# Altium schematic symbol library AltiumLibrary.SchLib: 65 symbols (part 2 of 2)
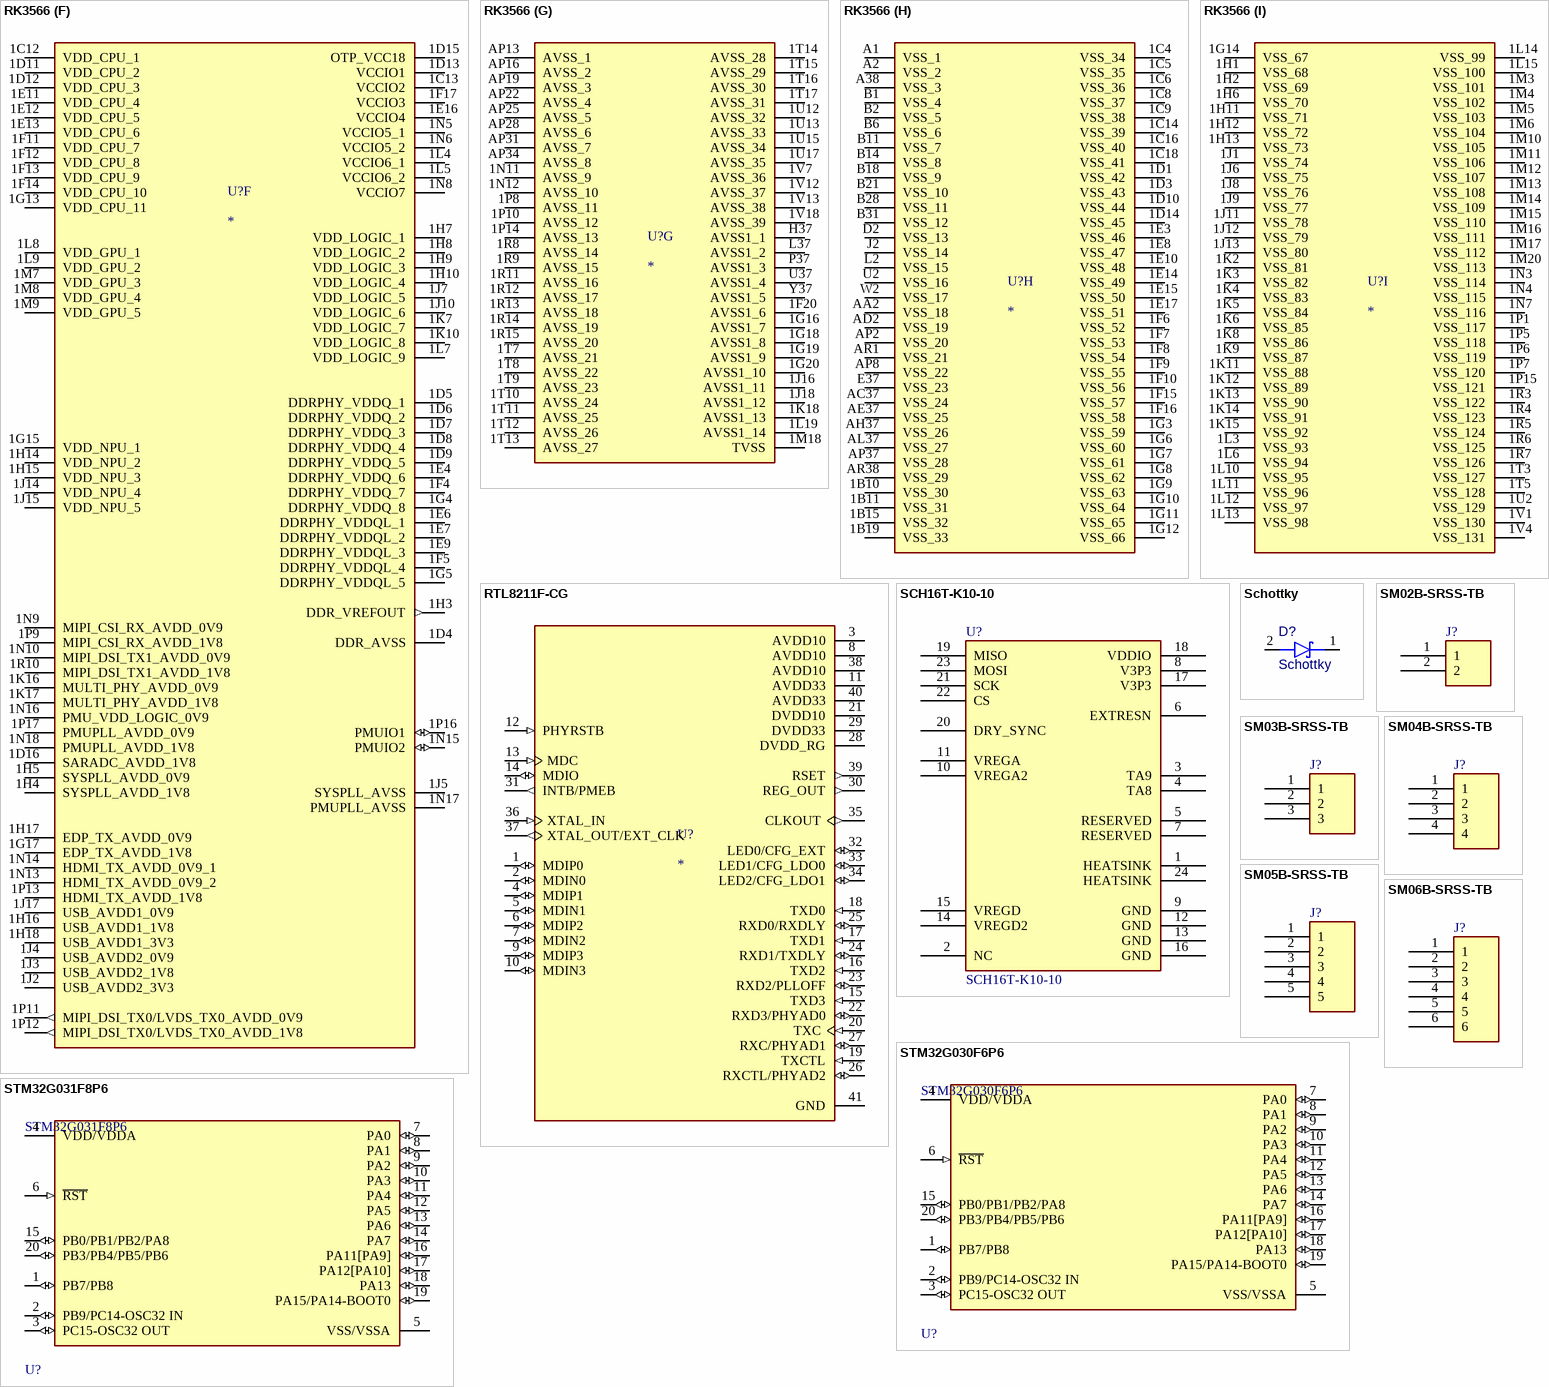
[diagram p8: symbols RK3566 to STM32G031F8P6]

## RK3566
designator U?
high-performance and low-power quad-core application processor; MF: Fuzhou Rockchip Electronics Co; MP: RK3566; SnapEDA_Link: https://www.snapeda.com/parts/RK3566/Fuzhou+Rockchip+Electronics+Co/view-part/?ref=snap; Package: None; Value: *; Check_prices: https://www.snapeda.com/parts/RK3566/Fuzhou+Rockchip+Electronics+Co/view-part/?ref=eda
footprint RK3566
part A pins: 1A15 FSPI_CLK/FLASH_ALE/GPIO1_D0_D (io), 1A17 FSPI_D0/FLASH_RDY/GPIO1_D1_U (io), 1A18 FSPI_D1/FLASH_~{RD}/GPIO1_D2_U (io), 1A19 SARADC_VIN3 (in), 1B17 ~{CS0} (io), 1B18 SARADC_VIN2 (in), 1C15 FSPI_D3/FLASH_~{CS1}/GPIO1_D4_U (io), 1C17 SARADC_VIN1 (in), 1D17 SARADC_VIN0 (in), 1L2 CAM_CLKOUT1/EBC_SDCE2/GMAC1_RXD1_M1/SPI3_MISO_M0/I2S1_SDO1_M1/GPIO4_B0_D (io), 1M19 GPIO0_D4_D (io), 1N1 CAM_CLKOUT0/EBC_SDCE1/GMAC1_RXD0_M1/SPI3_CS1_M0/I2S1_LRCK_RX_M1/GPIO4_A7_D (io), 1N19 GPIO0_D3_D (io), 1N20 GPIO0_D5_D (io), 1P18 REFCLK_OUT/GPIO0_A0_D (io), 1P19 PMIC_SLEEP/TSADC_SHUT_M1/GPIO0_A2_D (io), 1P20 GPIO0_D6_D (io), 1R19 GPIO0_A3_U (io), 1R20 TSADC_SHUT_M0/TSADC_SHUT_ORG/GPIO0_A1_Z (io), 1T20 CLK32K_IN/CLK32K_OUT0/GPIO0_B0_U (io), 1U8 MIPI_CSI_RX_CLK1N (in), 1U9 MIPI_CSI_RX_CLK0N (in), 1U11 MIPI_DSI_TX1_CLKN (out), 1V8 MIPI_CSI_RX_CLK1P (in), 1V9 MIPI_CSI_RX_CLK0P (in), 1V11 MIPI_DSI_TX1_CLKP (out), 1V15 MIPI_DSI_TX0_CLKN/LVDS_TX0_CLKN (out), 1V16 MIPI_DSI_TX0_CLKP/LVDS_TX0_CLKP (out), AF38 FLASH_VOL_SEL/GPIO0_A7_U (io), AG38 ~{POR_U} (in), AJ38 GPU_PWREN/SATA_CP_POD/GPIO0_A6_D (io), AP14 MIPI_CSI_RX_D3N (in), AP15 MIPI_CSI_RX_D2P (in), AP17 MIPI_CSI_RX_D1N (in), AP18 MIPI_CSI_RX_D0P (in), AP20 MIPI_DSI_TX1_D3N (out), AP21 MIPI_DSI_TX1_D2P (out), AP23 MIPI_DSI_TX1_D1N (out), AP24 MIPI_DSI_TX1_D0P (out), AP26 MIPI_DSI_TX0_D3N/LVDS_TX0_D3N (out), AP27 MIPI_DSI_TX0_D2P/LVDS_TX0_D2P (out), AP29 MIPI_DSI_TX0_D1N/LVDS_TX0_D1N (out), AP30 MIPI_DSI_TX0_D0P/LVDS_TX0_D0P (out), AR14 MIPI_CSI_RX_D3P (in), AR15 MIPI_CSI_RX_D2N (in), AR17 MIPI_CSI_RX_D1P (in), AR18 MIPI_CSI_RX_D0N (in), AR20 MIPI_DSI_TX1_D3P (out), AR21 MIPI_DSI_TX1_D2N (out), AR23 MIPI_DSI_TX1_D1P (out), AR24 MIPI_DSI_TX1_D0N (out), AR26 MIPI_DSI_TX0_D3P/LVDS_TX0_D3P (out), AR27 MIPI_DSI_TX0_D2N/LVDS_TX0_D2N (out), AR29 MIPI_DSI_TX0_D1P/LVDS_TX0_D1P (out), AR30 MIPI_DSI_TX0_D0N/LVDS_TX0_D0N (out)
part B pins: 1H19 EDP_TX_AUXP (io), 1H20 EDP_TX_AUXN (io), 1J19 USB3_HOST1_DP (io), 1J20 USB3_HOST1_DM (io), 1K19 PCIE20_REFCLKP (io), 1K20 PCIE20_REFCLKN (io), 1P3 PWM14_M0/VOP_PWM_M1/GMAC1_MDC_M0/UART7_TX_M1/PDM_CLK1_M2/GPIO3_C4_D (io), 1P4 PWM15_IR_M0/SPDIF_TX_M1/GMAC1_MDIO_M0/UART7_RX_M1/I2S1_LRCK_RX_M2/GPIO3_C5_D (io), 1R17 PWM0_M0/CPUAVS/GPIO0_B7_D (io), 1R18 PWM2_M0/NPUAVS/UART0_TX/MCU_JTAG_TDI/GPIO0_C1_D (io), 1T6 PWM13_M1/SPI3_CS0_M1/SATA0_ACT_LED/UART9_RX_M1/I2S3_SDI_M1/GPIO4_C6_D (io), 1T18 PWM7_IR/SPI0_CS0_M0/GPIO0_C6_D (io), 1T19 PWM1_M0/GPUAVS/UART0_RX/GPIO0_C0_D (io), 1U6 PWM12_M1/SPI3_MISO_M1/SATA1_ACT_LED/UART9_TX_M1/I2S3_SDO_M1/GPIO4_C5_D (io), 1U7 PWM14_M1/SPI3_CLK_M1/I2S3_MCLK_M1/GPIO4_C2_D (io), 1U16 HDMI_TX_REXT (io), 1U19 PWM6/SPI0_MISO_M0/GPIO0_C5_D (io), 1V5 HDMITX_CEC_M0/SPI3_CS1_M1/GPIO4_D1_U (io), 1V6 EDP_HPDIN_M0/SPDIF_TX_M2/SATA2_ACT_LED/I2S3_LRCK_M1/GPIO4_C4_D (io), 1V17 HDMI_TX_HPDIN (io), 1V20 HDMITX_CEC_M1/PWM0_M1/UART0_~{CTS}/GPIO0_C7_D (io), AA37 PCIE20_TXP/SATA2_TXP (out), AA38 PCIE20_TXN/SATA2_TXN (out), AB37 PCIE20_RXP/SATA2_RXP (in), AB38 PCIE20_RXN/SATA2_RXN (in), AD37 XIN24M (in), AD38 XOUT24M (out), AG2 ISP_PRELIGHT_TRIG/EBC_SDCE3/GMAC1_RXDV_CRS_M1/I2S1_SDO2_M1/GPIO4_B1_D (io), AH2 ISP_FLASHTRIGOUT/EBC_SDCE0/GMAC1_TXEN_M1/SPI3_CS0_M0/I2S1_SCLK_RX_M1/GPIO4_A6_D (io), AM37 PWM3_IR/EDP_HPDIN_M1/MCU_JTAG_TMS/GPIO0_C2_D (io), AN37 PWM5/SPI0_CS1_M0/UART0_~{RTS}/GPIO0_C4_D (io), AN38 PWM4/VOP_PWM_M0/MCU_JTAG_~{TRST}/GPIO0_C3_D (io), AP5 PWM12_M0/GMAC1_TXEN_M0/UART3_TX_M1/PDM_SDI2_M2/GPIO3_B7_D (io), AP11 HDMITX_SDA/I2C5_SDA_M1/GPIO4_D0_U (io), AP12 PWM15_IR_M1/SPI3_MOSI_M1/I2S3_SCLK_M1/GPIO4_C3_D (io), AP32 HDMI_TX_CLKN (out), AP33 HDMI_TX_D0P (out), AP35 HDMI_TX_D1N (out), AP36 HDMI_TX_D2P (out), AR4 PWM13_M0/GMAC1_MCLKINOUT_M0/UART3_RX_M1/PDM_SDI3_M2/GPIO3_C0_D (io), AR12 HDMITX_SCL/I2C5_SCL_M1/GPIO4_C7_U (io), AR32 HDMI_TX_CLKP (out), AR33 HDMI_TX_D0N (out), AR35 HDMI_TX_D1P (out), AR36 HDMI_TX_D2N (out), J37 EDP_TX_D0P (out), J38 EDP_TX_D0N (out), K37 EDP_TX_D1N (out), K38 EDP_TX_D1P (out), M37 EDP_TX_D2P (out), M38 EDP_TX_D2N (out), N37 EDP_TX_D3P (out), N38 EDP_TX_D3N (out), R37 USB_OTG0_DP (io), R38 USB_OTG0_DM (io), T37 USB_OTG0_ID (in), T38 USB_OTG0_VBUSDET (in), V1 USB_HOST2_DM (io), V2 USB_HOST2_DP (io), V37 USB3_HOST1_SSRXN/SATA1_RXN (in), V38 USB3_HOST1_SSRXP/SATA1_RXP (in), W37 USB3_HOST1_SSTXP/SATA1_TXP (out), W38 USB3_HOST1_SSTXN/SATA1_TXN (out), Y1 USB_HOST3_DM (io), Y2 USB_HOST3_DP (io)
part C pins: 1A13 I2S1_SCLK_RX_M0/UART4_RX_M0/PDM_CLK1_M0/SPDIF_TX_M0/GPIO1_A4_D (io), 1A14 I2S1_LRCK_RX_M0/UART4_TX_M0/PDM_CLK0_M0/AUDIOPWM_ROUT_P/GPIO1_A6_D (io), 1A16 EMMC_DATA_STROBE/FSPI_~{CS1}/FLASH_CLE/GPIO1_C6_D (io), 1B13 I2S1_SDO1_M0/I2S1_SDI3_M0/PDM_SDI3_M0/PCIE20_~{CLKREQ}_M2/GPIO1_B0_D (io), 1B14 I2S1_SDI0_M0/PDM_SDI0_M0/GPIO1_B3_D (io), 1B16 ~{RST}/~{FSPI}_~{D}2/~{FLASH}_~{WP}/~{GPIO}1_~{C}7_~{D} (io), 1B20 I2S2_SDO_M0/UART9_~{CTS}_M0/SPI2_CS0_M0/GPIO2_C4_D (io), 1D19 I2S2_LRCK_TX_M0/UART9_~{RTS}_M0/SPI2_MOSI_M0/GPIO2_C3_D (io), 1L1 CIF_HREF/EBC_SDLE/GMAC1_MDC_M1/UART1_~{RTS}_M1/I2S2_MCLK_M1/GPIO4_B6_D (io), 1N2 CIF_D14/EBC_SDDO14/GMAC1_TXD0_M1/UART9_TX_M2/I2S2_LRCK_TX_M1/GPIO4_A4_D (io), 1P2 CIF_D11/EBC_SDDO11/GMAC1_RXD2_M1/PDM_SDI1_M1/GPIO4_A1_D (io), 1R1 CIF_D12/EBC_SDDO12/GMAC1_RXD3_M1/UART7_TX_M2/PDM_SDI2_M1/GPIO4_A2_D (io), 1R2 CIF_D6/EBC_SDDO6/SDMMC2_DET_M0/I2S1_SDI2_M1/VOP_BT656_D6_M1/GPIO3_D4_D (io), 1R16 I2C2_SDA_M0/SPI0_MOSI_M0/PCIE20_~{PERST}_M0/PWM2_M1/GPIO0_B6_U (io), 1T1 CIF_D7/EBC_SDDO7/SDMMC2_PWREN_M0/I2S1_SDI3_M1/VOP_BT656_D7_M1/GPIO3_D5_D (io), 1T2 CIF_D0/EBC_SDDO0/SDMMC2_D0_M0/I2S1_MCLK_M1/VOP_BT656_D0_M1/GPIO3_C6_D (io), 1U1 CIF_D1/EBC_SDDO1/SDMMC2_D1_M0/I2S1_SCLK_TX_M1/VOP_BT656_D1_M1/GPIO3_C7_D (io), 1U20 I2C2_SCL_M0/SPI0_CLK_M0/PCIE20_~{WAKE}_M0/PWM1_M1/GPIO0_B5_U (io), A22 I2C3_SDA_M0/UART3_RX_M0/AUDIOPWM_LOUT_P/GPIO1_A0_U (io), A23 I2S1_MCLK_M0/UART3_~{RTS}_M0/SCR_CLK/GPIO1_A2_D (io), A26 I2S1_SDO2_M0/I2S1_SDI2_M0/PDM_SDI2_M0/PCIE20_~{WAKE}_M2/GPIO1_B1_D (io), A27 EMMC_CMD/FLASH_~{WR}/GPIO1_C4_U (io), A29 EMMC_CLKOUT/FLASH_DQS/GPIO1_C5_D (io), A30 EMMC_D5/FLASH_D5/GPIO1_C1_U (io), A32 EMMC_D0/FLASH_D0/GPIO1_B4_U (io), A33 EMMC_D7/FLASH_D7/GPIO1_C3_U (io), A37 I2S2_LRCK_RX_M0/UART6_~{CTS}_M0/SPI1_CS0_M0/GPIO2_C0_D (io), AB1 CIF_CLKIN/EBC_SDCLK/GMAC1_MCLKINOUT_M1/UART1_~{CTS}_M1/I2S2_SCLK_RX_M1/GPIO4_C1_D (io), AB2 CIF_CLKOUT/EBC_GDCLK/PWM11_IR_M1/GPIO4_C0_D (io), AC2 CIF_VSYNC/EBC_SDOE/GMAC1_MDIO_M1/I2S2_SCLK_TX_M1/GPIO4_B7_D (io), AD1 I2C2_SCL_M1/EBC_SDSHR/I2S1_SDO3_M1/GPIO4_B5_D (io), AE2 I2C4_SCL_M0/EBC_GDOE/ETH1_REFCLKO_25M_M1/SPI3_CLK_M0/I2S2_SDO_M1/GPIO4_B3_D (io), AF1 I2C2_SDA_M1/EBC_GDSP/ISP_FLASH_TRIGIN/VOP_BT656_CLK_M1/GPIO4_B4_D (io), AF2 I2C4_SDA_M0/EBC_VCOM/GMAC1_RXER_M1/SPI3_MOSI_M0/I2S2_SDI_M1/GPIO4_B2_D (io), AJ1 CIF_D15/EBC_SDDO15/GMAC1_TXD1_M1/UART9_RX_M2/I2S2_LRCK_RX_M1/GPIO4_A5_D (io), AJ2 CIF_D13/EBC_SDDO13/GMAC1_RXCLK_M1/UART7_RX_M2/PDM_SDI3_M1/GPIO4_A3_D (io), AJ37 I2C0_SCL/GPIO0_B1_U (io), AK2 CIF_D10/EBC_SDDO10/GMAC1_TXCLK_M1/PDM_CLK1_M1/GPIO4_A0_D (io), AK37 I2C1_SCL/MCU_JTAG_TDO/GPIO0_B3_U (io), AK38 I2C0_SDA/GPIO0_B2_U (io), AL1 CIF_D9/EBC_SDDO9/GMAC1_TXD3_M1/UART1_RX_M1/PDM_SDI0_M1/GPIO3_D7_D (io), AL2 CIF_D8/EBC_SDDO8/GMAC1_TXD2_M1/UART1_TX_M1/PDM_CLK0_M1/GPIO3_D6_D (io), AM1 CIF_D5/EBC_SDDO5/SDMMC2_CLK_M0/I2S1_SDI1_M1/VOP_BT656_D5_M1/GPIO3_D3_D (io), AM2 CIF_D4/EBC_SDDO4/SDMMC2_CMD_M0/I2S1_SDI0_M1/VOP_BT656_D4_M1/GPIO3_D2_D (io), AM38 I2C1_SDA/PCIE20_~{BUTTONRST}/MCU_JTAG_TCK/GPIO0_B4_U (io), AN2 CIF_D3/EBC_SDDO3/SDMMC2_D3_M0/I2S1_SDO0_M1/VOP_BT656_D3_M1/GPIO3_D1_D (io), AP1 CIF_D2/EBC_SDDO2/SDMMC2_D2_M0/I2S1_LRCK_TX_M1/VOP_BT656_D2_M1/GPIO3_D0_D (io), B22 I2C3_SCL_M0/UART3_TX_M0/AUDIOPWM_LOUT_N/GPIO1_A1_U (io), B23 I2S1_SCLK_TX_M0/UART3_~{CTS}_M0/SCR_IO/GPIO1_A3_D (io), B24 I2S1_LRCK_TX_M0/UART4_~{RTS}_M0/SCR_RST/GPIO1_A5_D (io), B25 I2S1_SDO0_M0/UART4_~{CTS}_M0/SCR_DET/AUDIOPWM_ROUT_N/GPIO1_A7_D (io), B26 I2S1_SDO3_M0/I2S1_SDI1_M0/PDM_SDI1_M0/PCIE20_~{PERST}_M2/GPIO1_B2_D (io), B27 EMMC_D1/FLASH_D1/GPIO1_B5_U (io), B29 EMMC_D3/FLASH_D3/GPIO1_B7_U (io), B30 EMMC_D6/FLASH_D6/GPIO1_C2_U (io), B32 EMMC_D2/FLASH_D2/GPIO1_B6_U (io), B33 EMMC_D4/FLASH_D4/GPIO1_C0_U (io), B36 I2S2_MCLK_M0/ETH0_REFCLKO_25M/UART7_~{RTS}_M0/SPI2_CLK_M0/GPIO2_C1_D (io), B38 CLK32K_OUT1/UART8_RX_M0/SPI1_CS1_M0/GPIO2_C6_D (io), C37 I2S2_SCLK_TX_M0/UART7_~{CTS}_M0/SPI2_MISO_M0/GPIO2_C2_D (io), D37 I2S2_SDI_M0/UART8_TX_M0/SPI2_CS1_M0/GPIO2_C5_D (io), D38 I2S2_SCLK_RX_M0/UART6_~{RTS}_M0/SPI1_MOSI_M0/GPIO2_B7_D (io)
part D pins: 1A20 SDMMC1_D3/UART7_TX_M0/GPIO2_A6_U (io), 1C19 SDMMC1_D0/UART6_RX_M0/GPIO2_A3_U (io), 1C20 UART1_RX_M0/GPIO2_B3_U (io), 1D18 SDMMC1_D2/UART7_RX_M0/GPIO2_A5_U (io), 1D20 SDMMC0_D2/ARM_JTAG_TCK/UART5_~{CTS}_M0/GPIO1_D7_U (io), 1E18 SDMMC1_D1/UART6_TX_M0/GPIO2_A4_U (io), 1E19 SDMMC0_CMD/PWM10_M1/UART5_RX_M0/GPIO2_A1_U (io), 1E20 SDMMC0_D0/UART2_TX_M1/UART6_TX_M1/PWM8_M1/GPIO1_D5_U (io), 1F18 SDMMC0_D3/ARM_JTAG_TMS/UART5_~{RTS}_M0/GPIO2_A0_U (io), 1F19 SDMMC0_D1/UART2_RX_M1/UART6_RX_M1/PWM9_M1/GPIO1_D6_U (io), 1T4 VOP_BT1120_D11/GMAC1_TXD0_M0/I2C3_SCL_M1/PWM10_M0/GPIO3_B5_D (io), 1U3 VOP_BT1120_D10/GMAC1_RXER_M0/I2C5_SDA_M0/PDM_SDI1_M2/GPIO3_B4_D (io), 1U4 VOP_BT1120_CLK/GMAC1_TXCLK_M0/I2S3_SDI_M0/SDMMC2_CLK_M1/GPIO3_A6_D (io), 1U5 VOP_BT1120_D0/SPI1_CS0_M1/SDMMC2_D0_M1/GPIO3_A1_D (io), 1U18 UART2_TX_M0/GPIO0_D1_U (io), 1V2 VOP_BT1120_D12/GMAC1_TXD1_M0/I2C3_SDA_M1/PWM11_IR_M0/GPIO3_B6_D (io), 1V3 VOP_BT1120_D5/GMAC1_RXCLK_M0/SDMMC2_DET_M1/GPIO3_A7_D (io), 1V19 UART2_RX_M0/GPIO0_D0_U (io), A35 SDMMC1_PWREN/I2C4_SDA_M1/UART8_~{RTS}_M0/GPIO2_B1_D (io), AF37 SDMMC0_DET/SATA_CP_DET/GPIO0_A4_U (io), AG37 SDMMC0_PWREN/SATA_MP_SWITCH/PCIE20_~{CLKREQ}_M0/GPIO0_A5_D (io), AP3 VOP_BT1120_D14/SPI1_MISO_M1/UART5_TX_M1/I2S1_SDO3_M2/GPIO3_C2_D (io), AP4 VOP_BT1120_D13/SPI1_MOSI_M1/PCIE20_~{PERST}_M1/I2S1_SDO2_M2/GPIO3_C1_D (io), AP6 VOP_BT1120_D9/GMAC1_RXDV_CRS_M0/I2C5_SCL_M0/PDM_SDI0_M2/GPIO3_B3_D (io), AP7 VOP_BT1120_D7/GMAC1_RXD0_M0/UART4_RX_M1/PWM8_M0/GPIO3_B1_D (io), AP9 VOP_BT1120_D4/GMAC1_RXD3_M0/I2S3_SDO_M0/SDMMC2_CMD_M1/GPIO3_A5_D (io), AP10 VOP_BT1120_D2/GMAC1_TXD3_M0/I2S3_SCLK_M0/SDMMC2_D2_M1/GPIO3_A3_D (io), AR2 VOP_BT1120_D15/SPI1_CLK_M1/UART5_RX_M1/I2S1_SCLK_RX_M2/GPIO3_C3_D (io), AR6 VOP_BT1120_D8/GMAC1_RXD1_M0/UART4_TX_M1/PWM9_M0/GPIO3_B2_D (io), AR7 VOP_BT1120_D6/ETH1_REFCLKO_25M_M0/SDMMC2_PWREN_M1/GPIO3_B0_D (io), AR9 VOP_BT1120_D3/GMAC1_RXD2_M0/I2S3_LRCK_M0/SDMMC2_D3_M1/GPIO3_A4_D (io), AR10 VOP_BT1120_D1/GMAC1_TXD2_M0/I2S3_MCLK_M0/SDMMC2_D1_M1/GPIO3_A2_D (io), B34 SDMMC1_DET/I2C4_SCL_M1/UART8_~{CTS}_M0/GPIO2_B2_U (io), B35 SDMMC1_CMD/UART9_RX_M0/GPIO2_A7_U (io), B37 SDMMC1_CLK/UART9_TX_M0/GPIO2_B0_D (io), F37 UART1_~{RTS}_M0/SPI1_CLK_M0/GPIO2_B5_U (io), F38 UART1_TX_M0/GPIO2_B4_U (io), G37 UART1_~{CTS}_M0/SPI1_MISO_M0/GPIO2_B6_U (io), G38 SDMMC0_CLK/TEST_CLKOUT/UART5_TX_M0/GPIO2_A2_D (io)
part E pins: 1A1 ~{RAS} (io), 1A2 ~{ACT}/~{LPDDR}4_~{CKE}1_~{B}/~{DDR}3_~{CAS}/-/~{AC}1~{7} (io), 1A3 DDR4_A10/LPDDR4_CKE0_B/DDR3_A10/-/AC10 (io), 1A4 DDR4_BG0/LPDDR4_ODT1_CA_B/DDR3_~{WE}/-/AC20 (io), 1A5 ~{CS1} (io), 1A6 DDR4_BA1/LPDDR4_A4_B/DDR3_A12/LPDDR3_A4/AC19 (io), 1A7 DDR_DQ3_B/DDR4_DQU1_B/LPDDR4_DQ3_B/DDR3_DQ19/LPDDR3_DQ4 (io), 1A8 DDR_DQ2_B/DDR4_DQU3_B/LPDDR4_DQ2_B/DDR3_DQ18/LPDDR3_DQ6 (io), 1A9 DDR_DQ7_B/DDR4_DQU2_B/LPDDR4_DQ7_B/DDR3_DQ23/LPDDR3_DQ0 (io), 1A10 DDR_DQ5_B/DDR4_DQU6_B/LPDDR4_DQ5_B/DDR3_DQ21/LPDDR3_DQ3 (io), 1A11 DDR_DM1_B/DDR4_DML_B/LPDDR4_DM1_B/DDR3_DM3/LPDDR3_DM2 (io), 1B1 DDR4_A14_~{WE}/LPDDR4_A4_A/DDR3_A15/LPDDR3_A5/AC14 (io), 1B3 DDR4_A12/LPDDR4_A3_A/DDR3_BA2/-/AC12 (io), 1B5 ~{CS0} (io), 1B6 DDR4_A4/LPDDR4_A3_B/DDR3_BA1/LPDDR3_A3/AC4 (io), 1B7 DDR4_BA0/LPDDR4_A2_B/DDR3_A1/-/AC18 (io), 1B8 DDR_DM0_B/DDR4_DMU_B/LPDDR4_DM0_B/DDR3_DM2/LPDDR3_DM0 (io), 1B9 DDR_DQ6_B/DDR4_DQU4_B/LPDDR4_DQ6_B/DDR3_DQ22/LPDDR3_DQ7 (io), 1C1 DDR4_A15_~{CAS}/LPDDR4_A2_A/DDR3_A0/-/AC15 (io), 1C2 DDR4_BG1/LPDDR4_ODT1_CA_A/DDR3_BA0/-/AC21 (io), 1C3 DDR4_A3/LPDDR4_CKE1_A/DDR3_A3/-/AC3 (io), 1C7 ~{RESET} (io), 1C10 DDR_DQ14_B/DDR4_DQL1_B/LPDDR4_DQ14_B/DDR3_DQ30/LPDDR3_DQ20 (io), 1D2 DDR4_A1/-/DDR3_A2/-/AC1 (io), 1E1 DDR_DQ7_A/DDR4_DQL1_A/LPDDR4_DQ7_A/DDR3_DQ7/LPDDR3_DQ11 (io), 1E2 DDR_DM0_A/DDR4_DML_A/LPDDR4_DM0_A/DDR3_DM0/LPDDR3_DM1 (io), 1F1 DDR_DQ14_A/DDR4_DQU6_A/LPDDR4_DQ14_A/DDR3_DQ14/LPDDR3_DQ30 (io), 1F2 DDR_DQ13_A/DDR4_DQU4_A/LPDDR4_DQ13_A/DDR3_DQ13/LPDDR3_DQ31 (io), 1F3 DDR_RZQ (io), 1G1 DDR_DM1_A/DDR4_DMU_A/LPDDR4_DM1_A/DDR3_DM1/LPDDR3_DM3 (io), 1G2 DDR_DQ15_A/DDR4_DQU0_A/LPDDR4_DQ15_A/DDR3_DQ15/LPDDR3_DQ27 (io), A3 ~{CS1} (io), A5 DDR4_CLKP/LPDDR4_CLKP_A/DDR3_CLKP/LPDDR3_CLKP/AC23 (io), A7 DDR4_A0/LPDDR4_CLKP_B/DDR3_A9/-/AC0 (io), A9 DDR4_A13/LPDDR4_A0_B/DDR3_A14/LPDDR3_A0/AC13 (io), A10 DDR4_A7/LPDDR4_ODT0_CA_B/DDR3_A8/-/AC7 (io), A12 DDR_DQS0N_B/DDR4_DQSU_N_B/LPDDR4_DQS0N_B/DDR3_DQS2N/LPDDR3_DQS0N (io), A13 DDR_DQS0P_B/DDR4_DQSU_P_B/LPDDR4_DQS0P_B/DDR3_DQS2P/LPDDR3_DQS0P (io), A15 DDR_DQ12_B/DDR4_DQL7_B/LPDDR4_DQ12_B/DDR3_DQ28/LPDDR3_DQ16 (io), A17 DDR_DQS1P_B/DDR4_DQSL_P_B/LPDDR4_DQS1P_B/DDR3_DQS3P/LPDDR3_DQS2P (io), A19 DDR_DQ9_B/DDR4_DQL2_B/LPDDR4_DQ9_B/DDR3_DQ25/LPDDR3_DQ19 (io), A20 DDR_DQ10_B/DDR4_DQL4_B/LPDDR4_DQ10_B/DDR3_DQ26/LPDDR3_DQ22 (io), B3 ~{CS0} (io), B4 DDR4_CKE/LPDDR4_CKE0_A/DDR3_CKE/LPDDR3_CKE/AC22 (io), B5 DDR4_CLKN/LPDDR4_CLKN_A/DDR3_CLKN/LPDDR3_CLKN/AC24 (io), B7 DDR4_A9/LPDDR4_CLKN_B/DDR3_A5/-/AC9 (io), B8 DDR4_A5/LPDDR4_A5_B/DDR3_A11/LPDDR3_A2/AC5 (io), B9 DDR4_A6/LPDDR4_A1_B/DDR3_A13/LPDDR3_A1/AC6 (io), B10 DDR_DQ1_B/DDR4_DQU5_B/LPDDR4_DQ1_B/DDR3_DQ17/LPDDR3_DQ5 (io), B12 DDR_DQ0_B/DDR4_DQU7_B/LPDDR4_DQ0_B/DDR3_DQ16/LPDDR3_DQ1 (io), B13 DDR_DQ4_B/DDR4_DQU0_B/LPDDR4_DQ4_B/DDR3_DQ20/LPDDR3_DQ2 (io), B15 DDR_DQ13_B/DDR4_DQL5_B/LPDDR4_DQ13_B/DDR3_DQ29/LPDDR3_DQ17 (io), B16 DDR_DQ15_B/DDR4_DQL3_B/LPDDR4_DQ15_B/DDR3_DQ31/LPDDR3_DQ21 (io), B17 DDR_DQS1N_B/DDR4_DQSL_N_B/LPDDR4_DQS1N_B/DDR3_DQS3N/LPDDR3_DQS2N (io), B19 DDR_DQ8_B/DDR4_DQL0_B/LPDDR4_DQ8_B/DDR3_DQ24/LPDDR3_DQ18 (io), B20 DDR_DQ11_B/DDR4_DQL6_B/LPDDR4_DQ11_B/DDR3_DQ27/LPDDR3_DQ23 (io), C1 DDR4_A2/LPDDR4_A1_A/DDR3_A4/LPDDR3_A6/AC2 (io), C2 DDR4_A11/LPDDR4_A0_A/DDR3_A7/LPDDR3_A8/AC11 (io), E1 DDR_DQ3_A/DDR4_DQL6_A/LPDDR4_DQ3_A/DDR3_DQ3/LPDDR3_DQ9 (io), E2 DDR4_A8/LPDDR4_ODT0_CA_A/DDR3_A6/LPDDR3_A9/AC8 (io), F1 DDR_DQ2_A/DDR4_DQL4_A/LPDDR4_DQ2_A/DDR3_DQ2/LPDDR3_DQ10 (io), F2 DDR_DQ1_A/DDR4_DQL2_A/LPDDR4_DQ1_A/DDR3_DQ1/LPDDR3_DQ14 (io), G2 DDR_DQ0_A/DDR4_DQL0_A/LPDDR4_DQ0_A/DDR3_DQ0/LPDDR3_DQ15 (io), H1 DDR_DQS0N_A/DDR4_DQSL_N_A/LPDDR4_DQS0N_A/DDR3_DQS0N/LPDDR3_DQS1N (io), H2 DDR_DQS0P_A/DDR4_DQSL_P_A/LPDDR4_DQS0P_A/DDR3_DQS0P/LPDDR3_DQS1P (io), K1 DDR_DQ5_A/DDR4_DQL5_A/LPDDR4_DQ5_A/DDR3_DQ5/LPDDR3_DQ12 (io), K2 DDR_DQ6_A/DDR4_DQL3_A/LPDDR4_DQ6_A/DDR3_DQ6/LPDDR3_DQ8 (io), M1 DDR_DQ12_A/DDR4_DQU2_A/LPDDR4_DQ12_A/DDR3_DQ12/LPDDR3_DQ26 (io), M2 DDR_DQ4_A/DDR4_DQL7_A/LPDDR4_DQ4_A/DDR3_DQ4/LPDDR3_DQ13 (io), N1 DDR_DQS1P_A/DDR4_DQSU_P_A/LPDDR4_DQS1P_A/DDR3_DQS1P/LPDDR3_DQS3P (io), N2 DDR_DQS1N_A/DDR4_DQSU_N_A/LPDDR4_DQS1N_A/DDR3_DQS1N/LPDDR3_DQS3N (io), P2 DDR_DQ8_A/DDR4_DQU3_A/LPDDR4_DQ8_A/DDR3_DQ8/LPDDR3_DQ25 (io), R1 DDR_DQ9_A/DDR4_DQU1_A/LPDDR4_DQ9_A/DDR3_DQ9/LPDDR3_DQ24 (io), R2 DDR_DQ10_A/DDR4_DQU7_A/LPDDR4_DQ10_A/DDR3_DQ10/LPDDR3_DQ28 (io), T2 DDR_DQ11_A/DDR4_DQU5_A/LPDDR4_DQ11_A/DDR3_DQ11/LPDDR3_DQ29 (io)
part F pins: 1C12 VDD_CPU_1 (power), 1C13 VCCIO2 (power), 1D4 DDR_AVSS (power), 1D5 DDRPHY_VDDQ_1 (power), 1D6 DDRPHY_VDDQ_2 (power), 1D7 DDRPHY_VDDQ_3 (power), 1D8 DDRPHY_VDDQ_4 (power), 1D9 DDRPHY_VDDQ_5 (power), 1D11 VDD_CPU_2 (power), 1D12 VDD_CPU_3 (power), 1D13 VCCIO1 (power), 1D15 OTP_VCC18 (power), 1D16 SARADC_AVDD_1V8 (power), 1E4 DDRPHY_VDDQ_6 (power), 1E6 DDRPHY_VDDQL_1 (power), 1E7 DDRPHY_VDDQL_2 (power), 1E9 DDRPHY_VDDQL_3 (power), 1E11 VDD_CPU_4 (power), 1E12 VDD_CPU_5 (power), 1E13 VDD_CPU_6 (power), 1E16 VCCIO4 (power), 1F4 DDRPHY_VDDQ_7 (power), 1F5 DDRPHY_VDDQL_4 (power), 1F11 VDD_CPU_7 (power), 1F12 VDD_CPU_8 (power), 1F13 VDD_CPU_9 (power), 1F14 VDD_CPU_10 (power), 1F17 VCCIO3 (power), 1G4 DDRPHY_VDDQ_8 (power), 1G5 DDRPHY_VDDQL_5 (power), 1G13 VDD_CPU_11 (power), 1G15 VDD_NPU_1 (power), 1G17 EDP_TX_AVDD_1V8 (power), 1H3 DDR_VREFOUT (out), 1H4 SYSPLL_AVDD_1V8 (power), 1H5 SYSPLL_AVDD_0V9 (power), 1H7 VDD_LOGIC_1 (power), 1H8 VDD_LOGIC_2 (power), 1H9 VDD_LOGIC_3 (power), 1H10 VDD_LOGIC_4 (power), 1H14 VDD_NPU_2 (power), 1H15 VDD_NPU_3 (power), 1H16 USB_AVDD1_1V8 (power), 1H17 EDP_TX_AVDD_0V9 (power), 1H18 USB_AVDD1_3V3 (power), 1J2 USB_AVDD2_3V3 (power), 1J3 USB_AVDD2_1V8 (power), 1J4 USB_AVDD2_0V9 (power), 1J5 SYSPLL_AVSS (power), 1J7 VDD_LOGIC_5 (power), 1J10 VDD_LOGIC_6 (power), 1J14 VDD_NPU_4 (power), 1J15 VDD_NPU_5 (power), 1J17 USB_AVDD1_0V9 (power), 1K7 VDD_LOGIC_7 (power), 1K10 VDD_LOGIC_8 (power), 1K16 MULTI_PHY_AVDD_0V9 (power), 1K17 MULTI_PHY_AVDD_1V8 (power), 1L4 VCCIO6_1 (power), 1L5 VCCIO6_2 (power), 1L7 VDD_LOGIC_9 (power), 1L8 VDD_GPU_1 (power), 1L9 VDD_GPU_2 (power), 1M7 VDD_GPU_3 (power), 1M8 VDD_GPU_4 (power), 1M9 VDD_GPU_5 (power), 1N5 VCCIO5_1 (power), 1N6 VCCIO5_2 (power), 1N8 VCCIO7 (power), 1N9 MIPI_CSI_RX_AVDD_0V9 (power), 1N10 MIPI_DSI_TX1_AVDD_0V9 (power), 1N13 HDMI_TX_AVDD_0V9_2 (power), 1N14 HDMI_TX_AVDD_0V9_1 (power), 1N15 PMUIO2 (io), 1N16 PMU_VDD_LOGIC_0V9 (power), 1N17 PMUPLL_AVSS (power), 1N18 PMUPLL_AVDD_1V8 (power), 1P9 MIPI_CSI_RX_AVDD_1V8 (power), 1P11 MIPI_DSI_TX0/LVDS_TX0_AVDD_0V9 (out), 1P12 MIPI_DSI_TX0/LVDS_TX0_AVDD_1V8 (out), 1P13 HDMI_TX_AVDD_1V8 (power), 1P16 PMUIO1 (io), 1P17 PMUPLL_AVDD_0V9 (power), 1R10 MIPI_DSI_TX1_AVDD_1V8 (power)
part G pins: 1F20 AVSS1_6 (power), 1G16 AVSS1_7 (power), 1G18 AVSS1_8 (power), 1G19 AVSS1_9 (power), 1G20 AVSS1_10 (power), 1J16 AVSS1_11 (power), 1J18 AVSS1_12 (power), 1K18 AVSS1_13 (power), 1L19 AVSS1_14 (power), 1M18 TVSS (power), 1N11 AVSS_9 (power), 1N12 AVSS_10 (power), 1P8 AVSS_11 (power), 1P10 AVSS_12 (power), 1P14 AVSS_13 (power), 1R8 AVSS_14 (power), 1R9 AVSS_15 (power), 1R11 AVSS_16 (power), 1R12 AVSS_17 (power), 1R13 AVSS_18 (power), 1R14 AVSS_19 (power), 1R15 AVSS_20 (power), 1T7 AVSS_21 (power), 1T8 AVSS_22 (power), 1T9 AVSS_23 (power), 1T10 AVSS_24 (power), 1T11 AVSS_25 (power), 1T12 AVSS_26 (power), 1T13 AVSS_27 (power), 1T14 AVSS_28 (power), 1T15 AVSS_29 (power), 1T16 AVSS_30 (power), 1T17 AVSS_31 (power), 1U12 AVSS_32 (power), 1U13 AVSS_33 (power), 1U15 AVSS_34 (power), 1U17 AVSS_35 (power), 1V7 AVSS_36 (power), 1V12 AVSS_37 (power), 1V13 AVSS_38 (power), 1V18 AVSS_39 (power), AP13 AVSS_1 (power), AP16 AVSS_2 (power), AP19 AVSS_3 (power), AP22 AVSS_4 (power), AP25 AVSS_5 (power), AP28 AVSS_6 (power), AP31 AVSS_7 (power), AP34 AVSS_8 (power), H37 AVSS1_1 (power), L37 AVSS1_2 (power), P37 AVSS1_3 (power), U37 AVSS1_4 (power), Y37 AVSS1_5 (power)
part H pins: 1B10 VSS_30 (power), 1B11 VSS_31 (power), 1B15 VSS_32 (power), 1B19 VSS_33 (power), 1C4 VSS_34 (power), 1C5 VSS_35 (power), 1C6 VSS_36 (power), 1C8 VSS_37 (power), 1C9 VSS_38 (power), 1C14 VSS_39 (power), 1C16 VSS_40 (power), 1C18 VSS_41 (power), 1D1 VSS_42 (power), 1D3 VSS_43 (power), 1D10 VSS_44 (power), 1D14 VSS_45 (power), 1E3 VSS_46 (power), 1E8 VSS_47 (power), 1E10 VSS_48 (power), 1E14 VSS_49 (power), 1E15 VSS_50 (power), 1E17 VSS_51 (power), 1F6 VSS_52 (power), 1F7 VSS_53 (power), 1F8 VSS_54 (power), 1F9 VSS_55 (power), 1F10 VSS_56 (power), 1F15 VSS_57 (power), 1F16 VSS_58 (power), 1G3 VSS_59 (power), 1G6 VSS_60 (power), 1G7 VSS_61 (power), 1G8 VSS_62 (power), 1G9 VSS_63 (power), 1G10 VSS_64 (power), 1G11 VSS_65 (power), 1G12 VSS_66 (power), A1 VSS_1 (power), A2 VSS_2 (power), A38 VSS_3 (power), AA2 VSS_18 (power), AC37 VSS_24 (power), AD2 VSS_19 (power), AE37 VSS_25 (power), AH37 VSS_26 (power), AL37 VSS_27 (power), AP2 VSS_20 (power), AP8 VSS_22 (power), AP37 VSS_28 (power), AR1 VSS_21 (power), AR38 VSS_29 (power), B1 VSS_4 (power), B2 VSS_5 (power), B6 VSS_6 (power), B11 VSS_7 (power), B14 VSS_8 (power), B18 VSS_9 (power), B21 VSS_10 (power), B28 VSS_11 (power), B31 VSS_12 (power), D2 VSS_13 (power), E37 VSS_23 (power), J2 VSS_14 (power), L2 VSS_15 (power), U2 VSS_16 (power), W2 VSS_17 (power)
part I pins: 1G14 VSS_67 (power), 1H1 VSS_68 (power), 1H2 VSS_69 (power), 1H6 VSS_70 (power), 1H11 VSS_71 (power), 1H12 VSS_72 (power), 1H13 VSS_73 (power), 1J1 VSS_74 (power), 1J6 VSS_75 (power), 1J8 VSS_76 (power), 1J9 VSS_77 (power), 1J11 VSS_78 (power), 1J12 VSS_79 (power), 1J13 VSS_80 (power), 1K2 VSS_81 (power), 1K3 VSS_82 (power), 1K4 VSS_83 (power), 1K5 VSS_84 (power), 1K6 VSS_85 (power), 1K8 VSS_86 (power), 1K9 VSS_87 (power), 1K11 VSS_88 (power), 1K12 VSS_89 (power), 1K13 VSS_90 (power), 1K14 VSS_91 (power), 1K15 VSS_92 (power), 1L3 VSS_93 (power), 1L6 VSS_94 (power), 1L10 VSS_95 (power), 1L11 VSS_96 (power), 1L12 VSS_97 (power), 1L13 VSS_98 (power), 1L14 VSS_99 (power), 1L15 VSS_100 (power), 1M3 VSS_101 (power), 1M4 VSS_102 (power), 1M5 VSS_103 (power), 1M6 VSS_104 (power), 1M10 VSS_105 (power), 1M11 VSS_106 (power), 1M12 VSS_107 (power), 1M13 VSS_108 (power), 1M14 VSS_109 (power), 1M15 VSS_110 (power), 1M16 VSS_111 (power), 1M17 VSS_112 (power), 1M20 VSS_113 (power), 1N3 VSS_114 (power), 1N4 VSS_115 (power), 1N7 VSS_116 (power), 1P1 VSS_117 (power), 1P5 VSS_118 (power), 1P6 VSS_119 (power), 1P7 VSS_120 (power), 1P15 VSS_121 (power), 1R3 VSS_122 (power), 1R4 VSS_123 (power), 1R5 VSS_124 (power), 1R6 VSS_125 (power), 1R7 VSS_126 (power), 1T3 VSS_127 (power), 1T5 VSS_128 (power), 1U2 VSS_129 (power), 1V1 VSS_130 (power), 1V4 VSS_131 (power)

## RTL8211F-CG
designator U?
GbE PHY with RGMIII interface & EEE feature (Switch Regulator), QFN40; MF: Realtek Semiconductor Corp; MP: RTL8211F-CG; SnapEDA_Link: https://www.snapeda.com/parts/RTL8211F-CG/Realtek/view-part/?ref=snap; Package: None; Value: *; Check_prices: https://www.snapeda.com/parts/RTL8211F-CG/Realtek/view-part/?ref=eda
footprint QFN40P500X500X90-41N
pins: 1 MDIP0 (io), 2 MDIN0 (io), 3 AVDD10 (power), 4 MDIP1 (io), 5 MDIN1 (io), 6 MDIP2 (io), 7 MDIN2 (io), 8 AVDD10 (power), 9 MDIP3 (io), 10 MDIN3 (io), 11 AVDD33 (power), 12 PHYRSTB (in), 13 MDC (in), 14 MDIO (io), 15 TXD3 (in), 16 TXD2 (in), 17 TXD1 (in), 18 TXD0 (in), 19 TXCTL (in), 20 TXC (in), 21 DVDD10 (power), 22 RXD3/PHYAD0 (io), 23 RXD2/PLLOFF (io), 24 RXD1/TXDLY (io), 25 RXD0/RXDLY (io), 26 RXCTL/PHYAD2 (io), 27 RXC/PHYAD1 (io), 28 DVDD_RG (power), 29 DVDD33 (power), 30 REG_OUT (out), 31 INTB/PMEB (out), 32 LED0/CFG_EXT (io), 33 LED1/CFG_LDO0 (io), 34 LED2/CFG_LDO1 (io), 35 CLKOUT (out), 36 XTAL_IN (in), 37 XTAL_OUT/EXT_CLK (out), 38 AVDD10 (power), 39 RSET (out), 40 AVDD33 (power), 41 GND (power)

## SCH16T-K10-10
designator U?
Inertial measurement unit; Manufacturer Part Number 1: SCH16T-K10-10
footprint SCH16T-K10-10 (SOP, 24-Leads, Body 11.80x9.80mm, Pitch 0.80mm, IPC High Density)
pins: 1 HEATSINK, 2 NC, 3 TA9, 4 TA8, 5 RESERVED, 6 EXTRESN, 7 RESERVED, 8 V3P3, 9 GND, 10 VREGA2, 11 VREGA, 12 GND, 13 GND, 14 VREGD2, 15 VREGD, 16 GND, 17 V3P3, 18 VDDIO, 19 MISO, 20 DRY_SYNC, 21 SCK, 22 CS, 23 MOSI, 24 HEATSINK

## Schottky
designator D?
Diode
footprint MicroSMP (DO-219AD) (SOD, 2-Leads, Body 2.3x1.4mm)
pins: 1 K, 2 A

## SM02B-SRSS-TB
designator J?  (value not drawn)
JST-SH 2P; Manufacturer Part Number 1: SM02B-SRSS-TB
footprint SM02B-SRSS-TB
pins: 1, 2

## SM03B-SRSS-TB
designator J?  (value not drawn)
JST-SH 3P; Manufacturer Part Number 1: SM03B-SRSS-TB
footprint SM03B-SRSS-TB (SMD, 3-Leads, Body 5x4.25mm, Pitch 1mm)
pins: 1, 2, 3

## SM04B-SRSS-TB
designator J?  (value not drawn)
JST-SH 4P; Manufacturer Part Number 1: SM04B-SRSS-TB
footprint SM04B-SRSS-TB
pins: 1, 2, 3, 4

## SM05B-SRSS-TB
designator J?  (value not drawn)
JST-SH 5P; Manufacturer Part Number 1: SM05B-SRSS-TB
footprint SM05B-SRSS-TB
pins: 1, 2, 3, 4, 5

## SM06B-SRSS-TB
designator J?  (value not drawn)
JST-SH 6P; Manufacturer Part Number 1: SM06B-SRSS-TB
footprint SM06B-SRSS-TB
pins: 1, 2, 3, 4, 5, 6

## STM32G030F6P6
designator U?
MCU 64MHz 32KB 8KB; Manufacturer: STMicroelectronics; Max Supply Voltage: 3.6V; Interface: I2C,SPI,USART,LIN,IrDA,I2S,SMBus; Memory Size: 32KBytes; Number Of I/Os: 17; Number Of Timers/Counters: 6; Core Architecture: ARM Cortex-M0+; Number Of Pwm Channels: 11; Standoff Height: 0.05mm; Number Of A/D Converters: 1; Number Of I2C Channels: 2; Data Bus Width: 32bits; Ram Size: 8KBytes; Max Junction Temp: +105°C; Number Of Spi Channels: 3; Min Supply Voltage: 2V; Number Of Adc Channels: 16; Memory Type: FLASH; Ambient Temperature Range Low: -40°C; ComponentLink2URL: https://www.st.com/resource/en/datasheet/stm32g030f6.pdf; Temperature Range Low: -40°C; Automotive: No; Device Class L1: Integrated Circuits (ICs); Category: IC; Temperature Range High: +85°C; ComponentLink2Description: Datasheet; Device Class L2: Embedded Processors and Controllers; Manufacturer Part Number 1: STM32G030F6P6; Height: 1.2mm; Ambient Temperature Range High: +85°C; Octopart: https://octopart.com/stm32g030f6p6-stmicroelectronics-103773023; Package: TSSOP20-YA; Temperature: -40°C to +85°C; Lead Free: Yes; Device Class L3: Microcontrollers; Number Of Uart Channels: 2; RoHS: TRUE; Number Of Cores: 1; Digikey Description: ARM MICROCONTROLLERS - MCU; Frequency: 64MHz
footprint STM32G030F6P6
pins: 1 PB7/PB8 (io), 2 PB9/PC14-OSC32 IN (io), 3 PC15-OSC32 OUT (io), 4 VDD/VDDA (power), 5 VSS/VSSA (power), 6 ~{RST} (in), 7 PA0 (io), 8 PA1 (io), 9 PA2 (io), 10 PA3 (io), 11 PA4 (io), 12 PA5 (io), 13 PA6 (io), 14 PA7 (io), 15 PB0/PB1/PB2/PA8 (io), 16 PA11[PA9] (io), 17 PA12[PA10] (io), 18 PA13 (io), 19 PA15/PA14-BOOT0 (io), 20 PB3/PB4/PB5/PB6 (io)

## STM32G031F8P6
designator U?
MCU 64MHz 64KB 8KB; ComponentLink2URL: https://www.st.com/resource/en/datasheet/stm32g030f6.pdf; ComponentLink2Description: Datasheet; Manufacturer Part Number 1: STM32G031F8P6
footprint STM32G031F8P6
pins: 1 PB7/PB8 (io), 2 PB9/PC14-OSC32 IN (io), 3 PC15-OSC32 OUT (io), 4 VDD/VDDA (power), 5 VSS/VSSA (power), 6 ~{RST} (in), 7 PA0 (io), 8 PA1 (io), 9 PA2 (io), 10 PA3 (io), 11 PA4 (io), 12 PA5 (io), 13 PA6 (io), 14 PA7 (io), 15 PB0/PB1/PB2/PA8 (io), 16 PA11[PA9] (io), 17 PA12[PA10] (io), 18 PA13 (io), 19 PA15/PA14-BOOT0 (io), 20 PB3/PB4/PB5/PB6 (io)

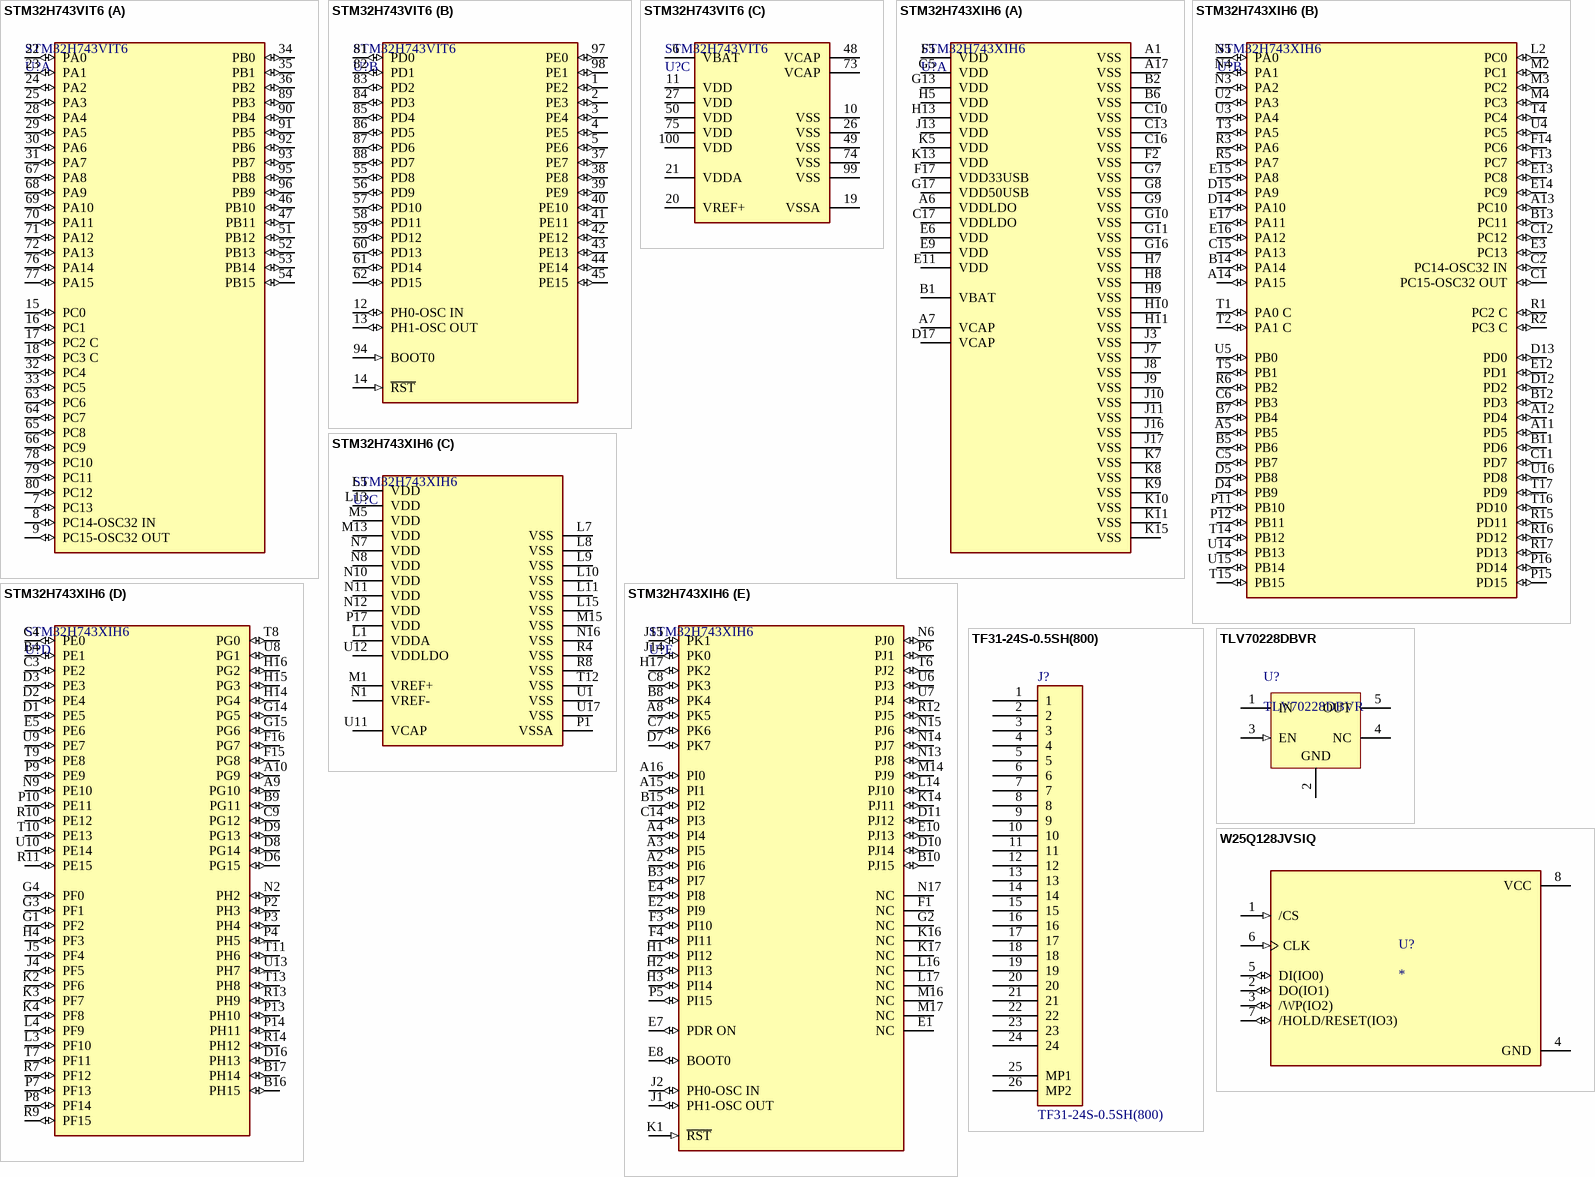
[diagram p7: symbols STM32H743VIT6 to W25Q128JVSIQ]

## STM32H743VIT6
designator U?
IC MCU 32BIT 2MB FLASH 100LQFP; Manufacturer: STMicroelectronics; Number Of Ethernet Channels: 1; Number Of Usb Channels: 2; Number Of A/D Converters: 3; Min Supply Voltage: 1.71V; Ram Size: 1060KBytes; Number Of I2C Channels: 4; Frequency: 480MHz; Number Of Adc Channels: 36; Number Of I/Os: 82; Max Supply Voltage: 3.6V; Number Of Spi Channels: 6; Memory Size: 2MBytes; Max Junction Temp: +125°C; Core Architecture: Arm Cortex-M7; Interface: I2C,SPI,UART,USART,USB,LIN,IrDA,Ethernet,I2S,Other; Number Of Timers/Counters: 20; Data Bus Width: 32bits; Number Of Pwm Channels: 42; Number Of Uart Channels: 9; Standoff Height: 0.05mm; Device Class L1: Integrated Circuits (ICs); ComponentLink2URL: https://www.st.com/resource/en/datasheet/stm32h743vi.pdf; Automotive: No; Memory Type: FLASH; Number Of Cores: 1; Temperature Range Low: -40°C; RoHS: TRUE; Ambient Temperature Range Low: -40°C; ComponentLink2Description: Datasheet; Device Class L2: Embedded Processors and Controllers; Device Class L3: Microcontrollers; Digikey Description: IC MCU 32BIT 2MB FLASH 100LQFP; Temperature Range High: +125°C; Ambient Temperature Range High: +85°C; Package: LQFP100-1L; Temperature: -40°C to +125°C; Category: IC; Ipc Land Pattern Name: QFP50P1600X1600X160-100; Height: 1.6mm; Manufacturer Part Number: STM32H743VIT6; Octopart: https://octopart.com/stm32h743vit6-stmicroelectronics-76372527; Lead Free: Yes
footprint STM32H743VIT6
part A pins: 7 PC13 (io), 8 PC14-OSC32 IN (io), 9 PC15-OSC32 OUT (io), 15 PC0 (io), 16 PC1 (io), 17 PC2 C (io), 18 PC3 C (io), 22 PA0 (io), 23 PA1 (io), 24 PA2 (io), 25 PA3 (io), 28 PA4 (io), 29 PA5 (io), 30 PA6 (io), 31 PA7 (io), 32 PC4 (io), 33 PC5 (io), 34 PB0 (io), 35 PB1 (io), 36 PB2 (io), 46 PB10 (io), 47 PB11 (io), 51 PB12 (io), 52 PB13 (io), 53 PB14 (io), 54 PB15 (io), 63 PC6 (io), 64 PC7 (io), 65 PC8 (io), 66 PC9 (io), 67 PA8 (io), 68 PA9 (io), 69 PA10 (io), 70 PA11 (io), 71 PA12 (io), 72 PA13 (io), 76 PA14 (io), 77 PA15 (io), 78 PC10 (io), 79 PC11 (io), 80 PC12 (io), 89 PB3 (io), 90 PB4 (io), 91 PB5 (io), 92 PB6 (io), 93 PB7 (io), 95 PB8 (io), 96 PB9 (io)
part B pins: 1 PE2 (io), 2 PE3 (io), 3 PE4 (io), 4 PE5 (io), 5 PE6 (io), 12 PH0-OSC IN (io), 13 PH1-OSC OUT (io), 14 ~{RST} (in), 37 PE7 (io), 38 PE8 (io), 39 PE9 (io), 40 PE10 (io), 41 PE11 (io), 42 PE12 (io), 43 PE13 (io), 44 PE14 (io), 45 PE15 (io), 55 PD8 (io), 56 PD9 (io), 57 PD10 (io), 58 PD11 (io), 59 PD12 (io), 60 PD13 (io), 61 PD14 (io), 62 PD15 (io), 81 PD0 (io), 82 PD1 (io), 83 PD2 (io), 84 PD3 (io), 85 PD4 (io), 86 PD5 (io), 87 PD6 (io), 88 PD7 (io), 94 BOOT0 (in), 97 PE0 (io), 98 PE1 (io)
part C pins: 6 VBAT (power), 10 VSS (power), 11 VDD (power), 19 VSSA (power), 20 VREF+ (power), 21 VDDA (power), 26 VSS (power), 27 VDD (power), 48 VCAP, 49 VSS (power), 50 VDD (power), 73 VCAP, 74 VSS (power), 75 VDD (power), 99 VSS (power), 100 VDD (power)

## STM32H743XIH6
designator U?
IC MCU 32BIT 2MB FLASH TFBGA; Number of I/Os: 168; Core Architecture: ARM; Frequency: 400MHz; Oscillator Type: Internal; Interface: I2C; Peripherals: Brown-out Detect/Reset; Memory Type: FLASH; Packaging: Tray; Min Operating Temperature: -40°C; Max Operating Temperature: 85°C; Memory Size: 2MB; Case/Package: TFBGA; RoHS Compliant: Yes
footprint STM32H743XIH6
part A pins: A1 VSS (power), A6 VDDLDO (power), A7 VCAP (power), A17 VSS (power), B1 VBAT (power), B2 VSS (power), B6 VSS (power), C10 VSS (power), C13 VSS (power), C16 VSS (power), C17 VDDLDO (power), D17 VCAP (power), E6 VDD (power), E9 VDD (power), E11 VDD (power), F2 VSS (power), F5 VDD (power), F17 VDD33USB (power), G5 VDD (power), G7 VSS (power), G8 VSS (power), G9 VSS (power), G10 VSS (power), G11 VSS (power), G13 VDD (power), G16 VSS (power), G17 VDD50USB (power), H5 VDD (power), H7 VSS (power), H8 VSS (power), H9 VSS (power), H10 VSS (power), H11 VSS (power), H13 VDD (power), J3 VSS (power), J7 VSS (power), J8 VSS (power), J9 VSS (power), J10 VSS (power), J11 VSS (power), J13 VDD (power), J16 VSS (power), J17 VSS (power), K5 VDD (power), K7 VSS (power), K8 VSS (power), K9 VSS (power), K10 VSS (power), K11 VSS (power), K13 VDD (power), K15 VSS (power)
part B pins: A5 PB5 (io), A11 PD5 (io), A12 PD4 (io), A13 PC10 (io), A14 PA15 (io), B5 PB6 (io), B7 PB4 (io), B11 PD6 (io), B12 PD3 (io), B13 PC11 (io), B14 PA14 (io), C1 PC15-OSC32 OUT (io), C2 PC14-OSC32 IN (io), C5 PB7 (io), C6 PB3 (io), C11 PD7 (io), C12 PC12 (io), C15 PA13 (io), D4 PB9 (io), D5 PB8 (io), D12 PD2 (io), D13 PD0 (io), D14 PA10 (io), D15 PA9 (io), E3 PC13 (io), E12 PD1 (io), E13 PC8 (io), E14 PC9 (io), E15 PA8 (io), E16 PA12 (io), E17 PA11 (io), F13 PC7 (io), F14 PC6 (io), L2 PC0 (io), M2 PC1 (io), M3 PC2 (io), M4 PC3 (io), N3 PA2 (io), N4 PA1 (io), N5 PA0 (io), P11 PB10 (io), P12 PB11 (io), P15 PD15 (io), P16 PD14 (io), R1 PC2 C (io), R2 PC3 C (io), R3 PA6 (io), R5 PA7 (io), R6 PB2 (io), R15 PD11 (io), R16 PD12 (io), R17 PD13 (io), T1 PA0 C (io), T2 PA1 C (io), T3 PA5 (io), T4 PC4 (io), T5 PB1 (io), T14 PB12 (io), T15 PB15 (io), T16 PD10 (io), T17 PD9 (io), U2 PA3 (io), U3 PA4 (io), U4 PC5 (io), U5 PB0 (io), U14 PB13 (io), U15 PB14 (io), U16 PD8 (io)
part C pins: L1 VDDA (power), L5 VDD (power), L7 VSS (power), L8 VSS (power), L9 VSS (power), L10 VSS (power), L11 VSS (power), L13 VDD (power), L15 VSS (power), M1 VREF+ (power), M5 VDD (power), M13 VDD (power), M15 VSS (power), N1 VREF- (power), N7 VDD (power), N8 VDD (power), N10 VDD (power), N11 VDD (power), N12 VDD (power), N16 VSS (power), P1 VSSA (power), P17 VDD (power), R4 VSS (power), R8 VSS (power), T12 VSS (power), U1 VSS (power), U11 VCAP (power), U12 VDDLDO (power), U17 VSS (power)
part D pins: A9 PG10 (io), A10 PG9 (io), B4 PE1 (io), B9 PG11 (io), B16 PH15 (io), B17 PH14 (io), C3 PE2 (io), C4 PE0 (io), C9 PG12 (io), D1 PE5 (io), D2 PE4 (io), D3 PE3 (io), D6 PG15 (io), D8 PG14 (io), D9 PG13 (io), D16 PH13 (io), E5 PE6 (io), F15 PG8 (io), F16 PG7 (io), G1 PF2 (io), G3 PF1 (io), G4 PF0 (io), G14 PG5 (io), G15 PG6 (io), H4 PF3 (io), H14 PG4 (io), H15 PG3 (io), H16 PG2 (io), J4 PF5 (io), J5 PF4 (io), K2 PF6 (io), K3 PF7 (io), K4 PF8 (io), L3 PF10 (io), L4 PF9 (io), N2 PH2 (io), N9 PE10 (io), P2 PH3 (io), P3 PH4 (io), P4 PH5 (io), P7 PF13 (io), P8 PF14 (io), P9 PE9 (io), P10 PE11 (io), P13 PH10 (io), P14 PH11 (io), R7 PF12 (io), R9 PF15 (io), R10 PE12 (io), R11 PE15 (io), R13 PH9 (io), R14 PH12 (io), T7 PF11 (io), T8 PG0 (io), T9 PE8 (io), T10 PE13 (io), T11 PH6 (io), T13 PH8 (io), U8 PG1 (io), U9 PE7 (io), U10 PE14 (io), U13 PH7 (io)
part E pins: A2 PI6 (io), A3 PI5 (io), A4 PI4 (io), A8 PK5 (io), A15 PI1 (io), A16 PI0 (io), B3 PI7 (io), B8 PK4 (io), B10 PJ15 (io), B15 PI2 (io), C7 PK6 (io), C8 PK3 (io), C14 PI3 (io), D7 PK7 (io), D10 PJ14 (io), D11 PJ12 (io), E1 NC, E2 PI9 (io), E4 PI8 (io), E7 PDR ON (io), E8 BOOT0 (io), E10 PJ13 (io), F1 NC, F3 PI10 (io), F4 PI11 (io), G2 NC, H1 PI12 (io), H2 PI13 (io), H3 PI14 (io), H17 PK2 (io), J1 PH1-OSC OUT (io), J2 PH0-OSC IN (io), J14 PK0 (io), J15 PK1 (io), K1 ~{RST} (in), K14 PJ11 (io), K16 NC, K17 NC, L14 PJ10 (io), L16 NC, L17 NC, M14 PJ9 (io), M16 NC, M17 NC, N6 PJ0 (io), N13 PJ8 (io), N14 PJ7 (io), N15 PJ6 (io), N17 NC, P5 PI15 (io), P6 PJ1 (io), R12 PJ5 (io), T6 PJ2 (io), U6 PJ3 (io), U7 PJ4 (io)

## TF31-24S-0.5SH(800)
designator J?
footprint TF31-24S-0.5SH(800)
pins: 1, 2, 3, 4, 5, 6, 7, 8, 9, 10, 11, 12, 13, 14, 15, 16, 17, 18, 19, 20, 21, 22, 23, 24, 25 MP1, 26 MP2

## TLV70228DBVR
designator U?
None; Output Current: 300mA; Min Output Voltage: 2.8V; Min Input Voltage: 2V; Number of Regulators: 1; Accuracy: 2%; Polarity: Positive; Max Power Dissipation: 500mW; Min Current Limit: 320mA; Max Input Voltage: 5.5V; Dropout Voltage: 75mV; Quiescent Current: 30uA; Output Type: Fixed; Lead Free: Lead Free; Min Operating Temperature: -40°C; Packaging: Tape and Reel; Max Output Voltage: 2.8V; Case/Package: SOT-23-5; Series: -; Contact Plating: Gold; Number of Outputs: 1; Max Operating Temperature: 125°C; RoHS Compliant: Yes; Package Quantity: 3000; Max Output Current: 300mA; Number of Pins: 5; Output Voltage: 2.8V
footprint TLV70228DBVR (SOT23, 5-Leads, Body 3.05x1.75mm, Pitch 0.95mm, IPC Medium Density)
pins: 1 IN (power) "Input supply voltage", 2 GND (power) "Ground", 3 EN (in) "Enable input", 4 NC "No connected", 5 OUT (power) "Regulated output voltage"

## W25Q128JVSIQ
designator U?
FLASH - NOR Memory IC 128Mb (16M x 8) SPI - Quad I/O, QPI, DTR 133 MHz 8-SOIC; MF: Winbond Electronics; MP: W25Q128JVSIQ; SnapEDA_Link: https://www.snapeda.com/parts/W25Q128JVSIQ/Winbond/view-part/?ref=snap; Package: SOIC-8 Winbond Electronics; Check_prices: https://www.snapeda.com/parts/W25Q128JVSIQ/Winbond/view-part/?ref=eda; Manufacturer Part Number 1: W25Q128JVSIQ
footprint W25Q128JVSIQ
pins: 1 /CS (in), 2 DO(IO1) (io), 3 /WP(IO2) (io), 4 GND (power), 5 DI(IO0) (io), 6 CLK (in), 7 /HOLD/RESET(IO3) (io), 8 VCC (power)